# Altium integrated library ERJS06J472V.IntLib: 1 symbol
Pins are listed as number, name and electrical type; pins without a type are passive.

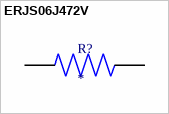
[diagram p0: symbol ERJS06J472V]

## ERJS06J472V
designator R?
MP: ERJS06J472V; Price: None; Availability: Unavailable; Package: None; Value: *
footprint RES_ERJS06J472V
pins: 1, 2